# EAGLE library part TMUX4053PWR (library ds_ic_peripherals)
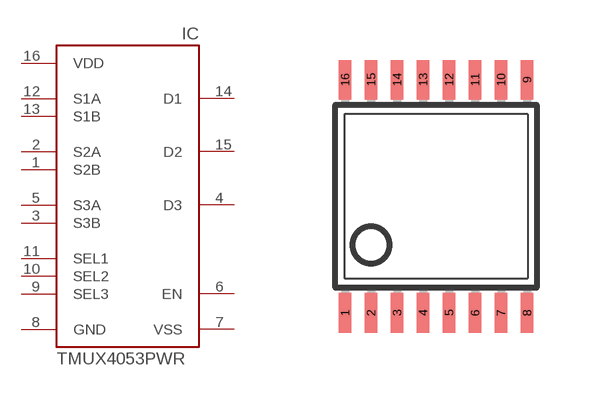
[diagram p0: symbol with the pads of TSSOP16; footprint TSSOP16]

Designator prefix IC

## TMUX4053PWR (DATASHEET: https://www.ti.com/lit/ds/symlink/tmux4052.pdf; DESCRIPTION: -55℃~+125℃ 1.05kΩ 140ns 190ns 20ns 2:1 3 5V~24V 5pF 850MHz TSSOP-16 Analog Switches, Multiplexers ROHS; LCSC_PART: C5377936; MANUFACTURER: Texas Instruments; MPN: TMUX4053PWR; ROHS: YES; VALUE: TMUX4053PWR)  [TSSOP16]
1  S2B  in
2  S2A  in
3  S3B  in
4  D3  out
5  S3A  in
6  EN  in
7  VSS  pwr
8  GND  pwr
9  SEL3  in
10  SEL2  in
11  SEL1  in
12  S1A  in
13  S1B  in
14  D1  out
15  D2  out
16  VDD  pwr

## Footprint TSSOP16 (pad centres in mm)
Thin Shrink Small Outline Plastic 16 MAX3223-MAX3243.pdf
smd 0.305 x 0.991: 1 -2.275,-2.918; 2 -1.625,-2.918; 3 -0.975,-2.918; 4 -0.325,-2.918; 5 0.325,-2.918; 6 0.975,-2.918; 7 1.625,-2.918; 8 2.275,-2.918; 9 2.275,2.918; 10 1.625,2.918; 11 0.975,2.918; 12 0.325,2.918; 13 -0.325,2.918; 14 -0.975,2.918; 15 -1.625,2.918; 16 -2.275,2.918